# Altium footprint library Connector_PinHeader_1.00mm.PcbLib: 278 footprints (part 11 of 18)
Each footprint in its own frame and in the unit in brackets; x right, y up, seen from the top. Pads: shape width x height; smd on the part's side, far side on the other; paste and mask are expansions set on the pad; w line width, h text height; cw(c..) or ccw(c..) is an arc to the next point about the centre after c.
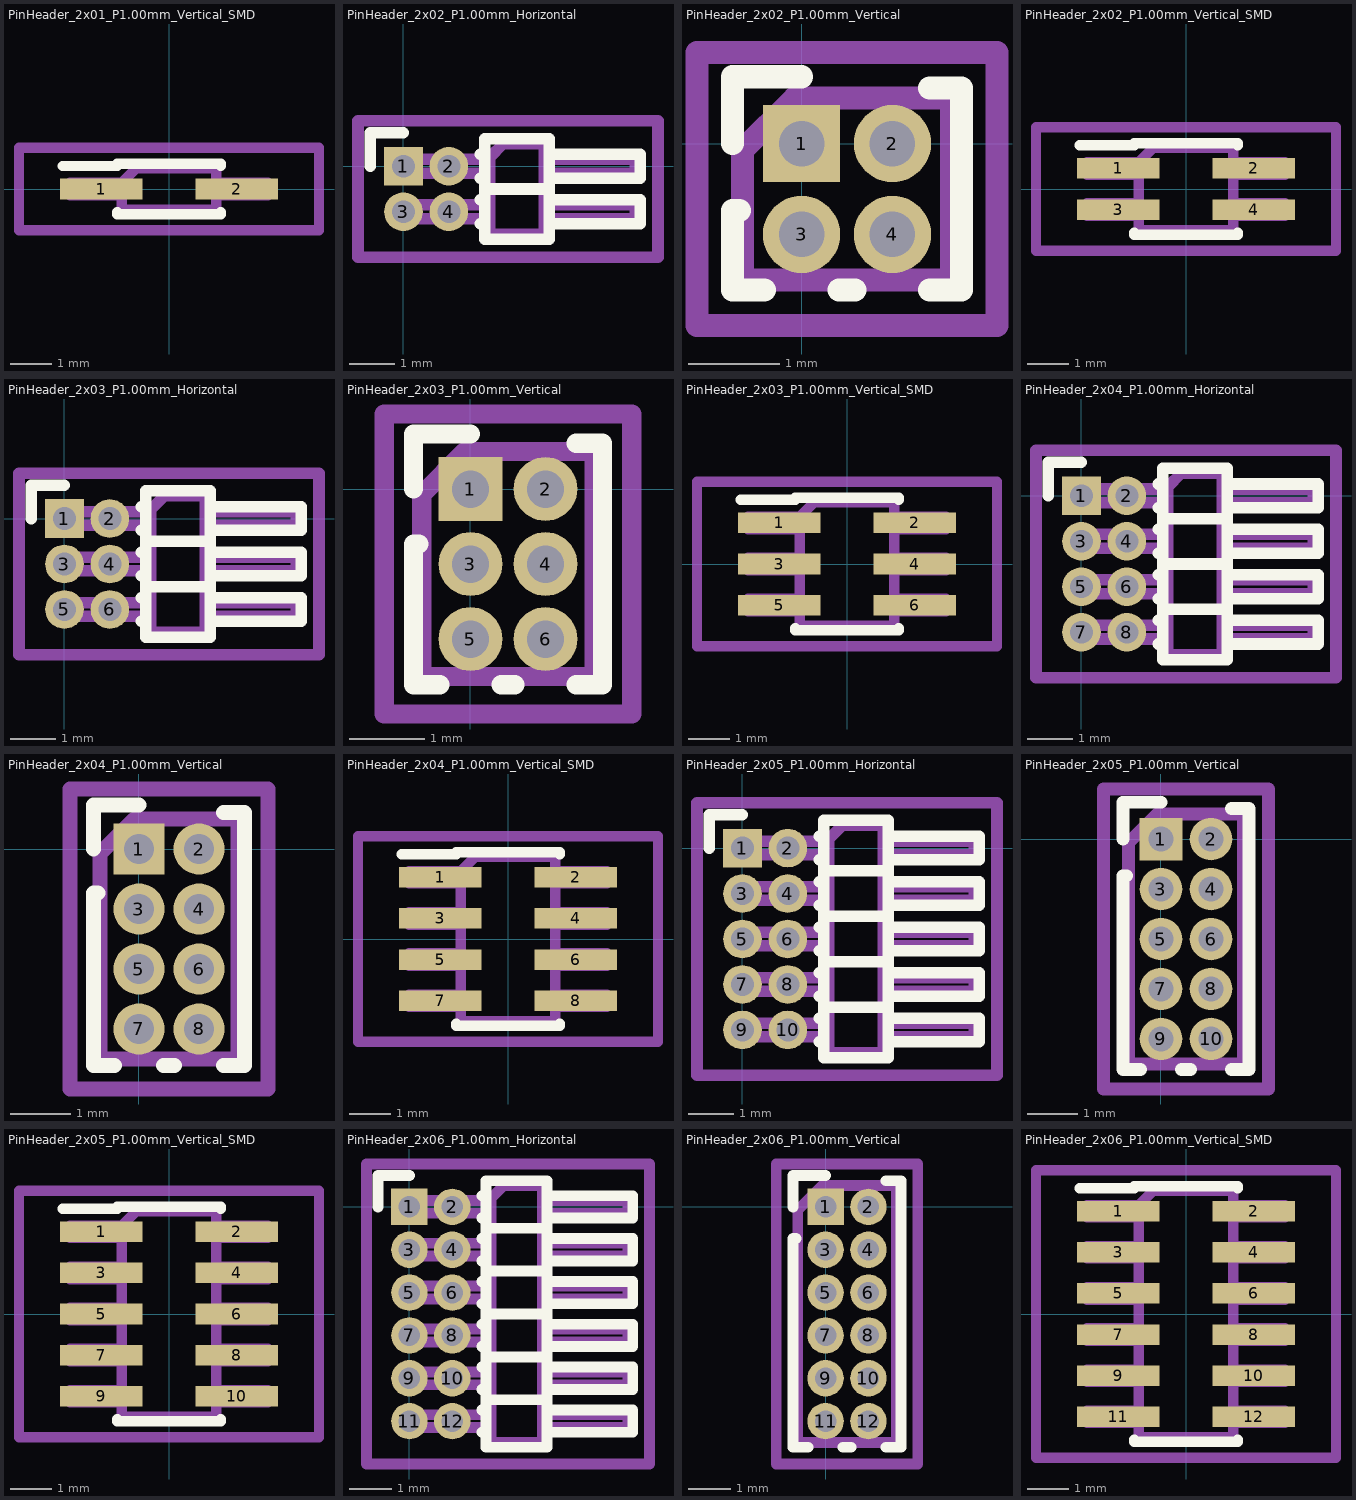
[diagram p10: the footprints below, top view; thin cyan lines are the x and y axes]

## PinHeader_2x01_P1.00mm_Vertical_SMD [mm]
pads (2):
  rect 2x0.5 smd: 1(-1.65,0) 2(1.65,0)
F.SilkS:
  lines w0.254: -2.59,0.56 -1.26,0.56 -1.26,0.61 1.26,0.61 1.26,0.56 ; -1.26,-0.56 -1.26,-0.61 1.26,-0.61 1.26,-0.56
Top Assembly:
  lines w0.254: -1.15,-0.15 -2.4,-0.15 -2.4,0.15 -1.15,0.15 ; 1.15,-0.15 2.4,-0.15 2.4,0.15 1.15,0.15 ; -1.15,0.15 -1.15,-0.5 1.15,-0.5 1.15,0.5 -0.8,0.5 -1.15,0.15
  text "'.Designator'" at 0.84,-4.047 h1
Top Courtyard:
  lines w0.254: -3.65,-1 3.65,-1 3.65,1 -3.65,1 -3.65,-1
Top Designator:
  text ".Designator" at -7.618,-0.658 h1.52

## PinHeader_2x02_P1.00mm_Horizontal [mm]
pads (4):
  rect 0.85x0.85 hole 0.5: 1(0,0)
  round 0.85 hole 0.5: 2(1,0) 3(0,-1) 4(1,-1)
F.SilkS:
  lines w0.254: -0.735,0 -0.735,0.735 0,0.735 ; 1.687,-1.26 1.79,-1.26 ; 1.687,-0.74 1.79,-0.74 ; 1.687,-0.26 1.79,-0.26 ; 1.687,0.26 1.79,0.26 ; 1.79,-0.5 3.21,-0.5 ; 3.21,-1.26 5.21,-1.26 5.21,-0.74 3.21,-0.74 ; 1.79,-1.61 3.21,-1.61 3.21,0.61 1.79,0.61 1.79,-1.61 ; 3.21,-0.26 5.21,-0.26 5.21,0.26 3.21,0.26 3.21,-0.26
Top Assembly:
  lines w0.254: 1.9,-1.15 -0.15,-1.15 -0.15,-0.85 1.9,-0.85 ; 1.9,-0.15 -0.15,-0.15 -0.15,0.15 1.9,0.15 ; 3.1,-1.15 5.1,-1.15 5.1,-0.85 3.1,-0.85 ; 3.1,-0.15 5.1,-0.15 5.1,0.15 3.1,0.15 ; 1.9,-1.5 3.1,-1.5 3.1,0.5 2.2,0.5 1.9,0.2 1.9,-1.5
  text "'.Designator'" at 3.105,-3.414 h0.72
Top Courtyard:
  lines w0.254: -1,-2 5.6,-2 5.6,1 -1,1 -1,-2
Top Designator:
  text ".Designator" at -5.318,-1.116 h1.52

## PinHeader_2x02_P1.00mm_Vertical [mm]
pads (4):
  rect 0.85x0.85 hole 0.5: 1(0,0)
  round 0.85 hole 0.5: 2(1,0) 3(0,-1) 4(1,-1)
F.SilkS:
  lines w0.254: -0.76,0 -0.76,0.735 0,0.735 ; -0.686,-0.735 -0.76,-0.735 -0.76,-1.61 -0.41,-1.61 ; 0.41,-1.61 0.59,-1.61 ; 1.41,-1.61 1.76,-1.61 1.76,0.61 1.41,0.61
Top Assembly:
  lines w0.254: -0.65,-1.5 1.65,-1.5 1.65,0.5 -0.075,0.5 -0.65,-0.075 -0.65,-1.5
  text "'.Designator'" at 1.34,-4.547 h1
Top Courtyard:
  lines w0.254: -1.15,-2 2.15,-2 2.15,1 -1.15,1 -1.15,-2
Top Designator:
  text ".Designator" at -7.118,-1.158 h1.52

## PinHeader_2x02_P1.00mm_Vertical_SMD [mm]
pads (4):
  rect 2x0.5 smd: 1(-1.65,0.5) 2(1.65,0.5) 3(-1.65,-0.5) 4(1.65,-0.5)
F.SilkS:
  lines w0.254: -2.59,1.06 -1.26,1.06 -1.26,1.11 1.26,1.11 1.26,1.06 ; -1.26,-1.06 -1.26,-1.11 1.26,-1.11 1.26,-1.06
Top Assembly:
  lines w0.254: -1.15,-0.65 -2.4,-0.65 -2.4,-0.35 -1.15,-0.35 ; -1.15,0.35 -2.4,0.35 -2.4,0.65 -1.15,0.65 ; 1.15,-0.65 2.4,-0.65 2.4,-0.35 1.15,-0.35 ; 1.15,0.35 2.4,0.35 2.4,0.65 1.15,0.65 ; -1.15,0.65 -1.15,-1 1.15,-1 1.15,1 -0.8,1 -1.15,0.65
  text "'.Designator'" at 0.84,-4.047 h1
Top Courtyard:
  lines w0.254: -3.65,-1.5 3.65,-1.5 3.65,1.5 -3.65,1.5 -3.65,-1.5
Top Designator:
  text ".Designator" at -7.618,-0.658 h1.52

## PinHeader_2x03_P1.00mm_Horizontal [mm]
pads (6):
  rect 0.85x0.85 hole 0.5: 1(0,0)
  round 0.85 hole 0.5: 2(1,0) 3(0,-1) 4(1,-1) 5(0,-2) 6(1,-2)
F.SilkS:
  lines w0.254: -0.735,0 -0.735,0.735 0,0.735 ; 1.687,-2.26 1.79,-2.26 ; 1.687,-1.74 1.79,-1.74 ; 1.687,-1.26 1.79,-1.26 ; 1.687,-0.74 1.79,-0.74 ; 1.687,-0.26 1.79,-0.26 ; 1.687,0.26 1.79,0.26 ; 1.79,-1.5 3.21,-1.5 ; 1.79,-0.5 3.21,-0.5 ; 3.21,-2.26 5.21,-2.26 5.21,-1.74 3.21,-1.74 ; 3.21,-1.26 5.21,-1.26 5.21,-0.74 3.21,-0.74 ; 1.79,-2.61 3.21,-2.61 3.21,0.61 1.79,0.61 1.79,-2.61 ; 3.21,-0.26 5.21,-0.26 5.21,0.26 3.21,0.26 3.21,-0.26
Top Assembly:
  lines w0.254: 1.9,-2.15 -0.15,-2.15 -0.15,-1.85 1.9,-1.85 ; 1.9,-1.15 -0.15,-1.15 -0.15,-0.85 1.9,-0.85 ; 1.9,-0.15 -0.15,-0.15 -0.15,0.15 1.9,0.15 ; 3.1,-2.15 5.1,-2.15 5.1,-1.85 3.1,-1.85 ; 3.1,-1.15 5.1,-1.15 5.1,-0.85 3.1,-0.85 ; 3.1,-0.15 5.1,-0.15 5.1,0.15 3.1,0.15 ; 1.9,-2.5 3.1,-2.5 3.1,0.5 2.2,0.5 1.9,0.2 1.9,-2.5
  text "'.Designator'" at 3.105,-3.914 h0.72
Top Courtyard:
  lines w0.254: -1,-3 5.6,-3 5.6,1 -1,1 -1,-3
Top Designator:
  text ".Designator" at -5.318,-1.616 h1.52

## PinHeader_2x03_P1.00mm_Vertical [mm]
pads (6):
  rect 0.85x0.85 hole 0.5: 1(0,0)
  round 0.85 hole 0.5: 2(1,0) 3(0,-1) 4(1,-1) 5(0,-2) 6(1,-2)
F.SilkS:
  lines w0.254: -0.76,0 -0.76,0.735 0,0.735 ; -0.686,-0.735 -0.76,-0.735 -0.76,-2.61 -0.41,-2.61 ; 0.41,-2.61 0.59,-2.61 ; 1.41,-2.61 1.76,-2.61 1.76,0.61 1.41,0.61
Top Assembly:
  lines w0.254: -0.65,-2.5 1.65,-2.5 1.65,0.5 -0.075,0.5 -0.65,-0.075 -0.65,-2.5
  text "'.Designator'" at 1.34,-5.047 h1
Top Courtyard:
  lines w0.254: -1.15,-3 2.15,-3 2.15,1 -1.15,1 -1.15,-3
Top Designator:
  text ".Designator" at -7.118,-1.658 h1.52

## PinHeader_2x03_P1.00mm_Vertical_SMD [mm]
pads (6):
  rect 2x0.5 smd: 1(-1.65,1) 2(1.65,1) 3(-1.65,0) 4(1.65,0) 5(-1.65,-1) 6(1.65,-1)
F.SilkS:
  lines w0.254: -2.59,1.56 -1.26,1.56 -1.26,1.61 1.26,1.61 1.26,1.56 ; -1.26,-1.56 -1.26,-1.61 1.26,-1.61 1.26,-1.56
Top Assembly:
  lines w0.254: -1.15,-1.15 -2.4,-1.15 -2.4,-0.85 -1.15,-0.85 ; -1.15,-0.15 -2.4,-0.15 -2.4,0.15 -1.15,0.15 ; -1.15,0.85 -2.4,0.85 -2.4,1.15 -1.15,1.15 ; 1.15,-1.15 2.4,-1.15 2.4,-0.85 1.15,-0.85 ; 1.15,-0.15 2.4,-0.15 2.4,0.15 1.15,0.15 ; 1.15,0.85 2.4,0.85 2.4,1.15 1.15,1.15 ; -1.15,1.15 -1.15,-1.5 1.15,-1.5 1.15,1.5 -0.8,1.5 -1.15,1.15
  text "'.Designator'" at 0.84,-4.047 h1
Top Courtyard:
  lines w0.254: -3.65,-2 3.65,-2 3.65,2 -3.65,2 -3.65,-2
Top Designator:
  text ".Designator" at -7.618,-0.658 h1.52

## PinHeader_2x04_P1.00mm_Horizontal [mm]
pads (8):
  rect 0.85x0.85 hole 0.5: 1(0,0)
  round 0.85 hole 0.5: 2(1,0) 3(0,-1) 4(1,-1) 5(0,-2) 6(1,-2) 7(0,-3) 8(1,-3)
F.SilkS:
  lines w0.254: -0.735,0 -0.735,0.735 0,0.735 ; 1.687,-3.26 1.79,-3.26 ; 1.687,-2.74 1.79,-2.74 ; 1.687,-2.26 1.79,-2.26 ; 1.687,-1.74 1.79,-1.74 ; 1.687,-1.26 1.79,-1.26 ; 1.687,-0.74 1.79,-0.74 ; 1.687,-0.26 1.79,-0.26 ; 1.687,0.26 1.79,0.26 ; 1.79,-2.5 3.21,-2.5 ; 1.79,-1.5 3.21,-1.5 ; 1.79,-0.5 3.21,-0.5 ; 3.21,-3.26 5.21,-3.26 5.21,-2.74 3.21,-2.74 ; 3.21,-2.26 5.21,-2.26 5.21,-1.74 3.21,-1.74 ; 3.21,-1.26 5.21,-1.26 5.21,-0.74 3.21,-0.74 ; 1.79,-3.61 3.21,-3.61 3.21,0.61 1.79,0.61 1.79,-3.61 ; 3.21,-0.26 5.21,-0.26 5.21,0.26 3.21,0.26 3.21,-0.26
Top Assembly:
  lines w0.254: 1.9,-3.15 -0.15,-3.15 -0.15,-2.85 1.9,-2.85 ; 1.9,-2.15 -0.15,-2.15 -0.15,-1.85 1.9,-1.85 ; 1.9,-1.15 -0.15,-1.15 -0.15,-0.85 1.9,-0.85 ; 1.9,-0.15 -0.15,-0.15 -0.15,0.15 1.9,0.15 ; 3.1,-3.15 5.1,-3.15 5.1,-2.85 3.1,-2.85 ; 3.1,-2.15 5.1,-2.15 5.1,-1.85 3.1,-1.85 ; 3.1,-1.15 5.1,-1.15 5.1,-0.85 3.1,-0.85 ; 3.1,-0.15 5.1,-0.15 5.1,0.15 3.1,0.15 ; 1.9,-3.5 3.1,-3.5 3.1,0.5 2.2,0.5 1.9,0.2 1.9,-3.5
  text "'.Designator'" at 3.105,-4.414 h0.72
Top Courtyard:
  lines w0.254: -1,-4 5.6,-4 5.6,1 -1,1 -1,-4
Top Designator:
  text ".Designator" at -5.318,-2.116 h1.52

## PinHeader_2x04_P1.00mm_Vertical [mm]
pads (8):
  rect 0.85x0.85 hole 0.5: 1(0,0)
  round 0.85 hole 0.5: 2(1,0) 3(0,-1) 4(1,-1) 5(0,-2) 6(1,-2) 7(0,-3) 8(1,-3)
F.SilkS:
  lines w0.254: -0.76,0 -0.76,0.735 0,0.735 ; -0.686,-0.735 -0.76,-0.735 -0.76,-3.61 -0.41,-3.61 ; 0.41,-3.61 0.59,-3.61 ; 1.41,-3.61 1.76,-3.61 1.76,0.61 1.41,0.61
Top Assembly:
  lines w0.254: -0.65,-3.5 1.65,-3.5 1.65,0.5 -0.075,0.5 -0.65,-0.075 -0.65,-3.5
  text "'.Designator'" at 1.34,-5.547 h1
Top Courtyard:
  lines w0.254: -1.15,-4 2.15,-4 2.15,1 -1.15,1 -1.15,-4
Top Designator:
  text ".Designator" at -7.118,-2.158 h1.52

## PinHeader_2x04_P1.00mm_Vertical_SMD [mm]
pads (8):
  rect 2x0.5 smd: 1(-1.65,1.5) 2(1.65,1.5) 3(-1.65,0.5) 4(1.65,0.5) 5(-1.65,-0.5) 6(1.65,-0.5) 7(-1.65,-1.5) 8(1.65,-1.5)
F.SilkS:
  lines w0.254: -2.59,2.06 -1.26,2.06 -1.26,2.11 1.26,2.11 1.26,2.06 ; -1.26,-2.06 -1.26,-2.11 1.26,-2.11 1.26,-2.06
Top Assembly:
  lines w0.254: -1.15,-1.65 -2.4,-1.65 -2.4,-1.35 -1.15,-1.35 ; -1.15,-0.65 -2.4,-0.65 -2.4,-0.35 -1.15,-0.35 ; -1.15,0.35 -2.4,0.35 -2.4,0.65 -1.15,0.65 ; -1.15,1.35 -2.4,1.35 -2.4,1.65 -1.15,1.65 ; 1.15,-1.65 2.4,-1.65 2.4,-1.35 1.15,-1.35 ; 1.15,-0.65 2.4,-0.65 2.4,-0.35 1.15,-0.35 ; 1.15,0.35 2.4,0.35 2.4,0.65 1.15,0.65 ; 1.15,1.35 2.4,1.35 2.4,1.65 1.15,1.65 ; -1.15,1.65 -1.15,-2 1.15,-2 1.15,2 -0.8,2 -1.15,1.65
  text "'.Designator'" at 0.84,-4.047 h1
Top Courtyard:
  lines w0.254: -3.65,-2.5 3.65,-2.5 3.65,2.5 -3.65,2.5 -3.65,-2.5
Top Designator:
  text ".Designator" at -7.618,-0.658 h1.52

## PinHeader_2x05_P1.00mm_Horizontal [mm]
pads (10):
  rect 0.85x0.85 hole 0.5: 1(0,0)
  round 0.85 hole 0.5: 2(1,0) 3(0,-1) 4(1,-1) 5(0,-2) 6(1,-2) 7(0,-3) 8(1,-3) 9(0,-4) 10(1,-4)
F.SilkS:
  lines w0.254: -0.735,0 -0.735,0.735 0,0.735 ; 1.687,-4.26 1.79,-4.26 ; 1.687,-3.74 1.79,-3.74 ; 1.687,-3.26 1.79,-3.26 ; 1.687,-2.74 1.79,-2.74 ; 1.687,-2.26 1.79,-2.26 ; 1.687,-1.74 1.79,-1.74 ; 1.687,-1.26 1.79,-1.26 ; 1.687,-0.74 1.79,-0.74 ; 1.687,-0.26 1.79,-0.26 ; 1.687,0.26 1.79,0.26 ; 1.79,-3.5 3.21,-3.5 ; 1.79,-2.5 3.21,-2.5 ; 1.79,-1.5 3.21,-1.5 ; 1.79,-0.5 3.21,-0.5 ; 3.21,-4.26 5.21,-4.26 5.21,-3.74 3.21,-3.74 ; 3.21,-3.26 5.21,-3.26 5.21,-2.74 3.21,-2.74 ; 3.21,-2.26 5.21,-2.26 5.21,-1.74 3.21,-1.74 ; 3.21,-1.26 5.21,-1.26 5.21,-0.74 3.21,-0.74 ; 1.79,-4.61 3.21,-4.61 3.21,0.61 1.79,0.61 1.79,-4.61 ; 3.21,-0.26 5.21,-0.26 5.21,0.26 3.21,0.26 3.21,-0.26
Top Assembly:
  lines w0.254: 1.9,-4.15 -0.15,-4.15 -0.15,-3.85 1.9,-3.85 ; 1.9,-3.15 -0.15,-3.15 -0.15,-2.85 1.9,-2.85 ; 1.9,-2.15 -0.15,-2.15 -0.15,-1.85 1.9,-1.85 ; 1.9,-1.15 -0.15,-1.15 -0.15,-0.85 1.9,-0.85 ; 1.9,-0.15 -0.15,-0.15 -0.15,0.15 1.9,0.15 ; 3.1,-4.15 5.1,-4.15 5.1,-3.85 3.1,-3.85 ; 3.1,-3.15 5.1,-3.15 5.1,-2.85 3.1,-2.85 ; 3.1,-2.15 5.1,-2.15 5.1,-1.85 3.1,-1.85 ; 3.1,-1.15 5.1,-1.15 5.1,-0.85 3.1,-0.85 ; 3.1,-0.15 5.1,-0.15 5.1,0.15 3.1,0.15 ; 1.9,-4.5 3.1,-4.5 3.1,0.5 2.2,0.5 1.9,0.2 1.9,-4.5
  text "'.Designator'" at 3.105,-4.914 h0.72
Top Courtyard:
  lines w0.254: -1,-5 5.6,-5 5.6,1 -1,1 -1,-5
Top Designator:
  text ".Designator" at -5.318,-2.508 h1.52

## PinHeader_2x05_P1.00mm_Vertical [mm]
pads (10):
  rect 0.85x0.85 hole 0.5: 1(0,0)
  round 0.85 hole 0.5: 2(1,0) 3(0,-1) 4(1,-1) 5(0,-2) 6(1,-2) 7(0,-3) 8(1,-3) 9(0,-4) 10(1,-4)
F.SilkS:
  lines w0.254: -0.76,0 -0.76,0.735 0,0.735 ; -0.686,-0.735 -0.76,-0.735 -0.76,-4.61 -0.41,-4.61 ; 0.41,-4.61 0.59,-4.61 ; 1.41,-4.61 1.76,-4.61 1.76,0.61 1.41,0.61
Top Assembly:
  lines w0.254: -0.65,-4.5 1.65,-4.5 1.65,0.5 -0.075,0.5 -0.65,-0.075 -0.65,-4.5
  text "'.Designator'" at 1.34,-6.047 h1
Top Courtyard:
  lines w0.254: -1.15,-5 2.15,-5 2.15,1 -1.15,1 -1.15,-5
Top Designator:
  text ".Designator" at -7.118,-2.658 h1.52

## PinHeader_2x05_P1.00mm_Vertical_SMD [mm]
pads (10):
  rect 2x0.5 smd: 1(-1.65,2) 2(1.65,2) 3(-1.65,1) 4(1.65,1) 5(-1.65,0) 6(1.65,0) 7(-1.65,-1) 8(1.65,-1) 9(-1.65,-2) 10(1.65,-2)
F.SilkS:
  lines w0.254: -2.59,2.56 -1.26,2.56 -1.26,2.61 1.26,2.61 1.26,2.56 ; -1.26,-2.56 -1.26,-2.61 1.26,-2.61 1.26,-2.56
Top Assembly:
  lines w0.254: -1.15,-2.15 -2.4,-2.15 -2.4,-1.85 -1.15,-1.85 ; -1.15,-1.15 -2.4,-1.15 -2.4,-0.85 -1.15,-0.85 ; -1.15,-0.15 -2.4,-0.15 -2.4,0.15 -1.15,0.15 ; -1.15,0.85 -2.4,0.85 -2.4,1.15 -1.15,1.15 ; -1.15,1.85 -2.4,1.85 -2.4,2.15 -1.15,2.15 ; 1.15,-2.15 2.4,-2.15 2.4,-1.85 1.15,-1.85 ; 1.15,-1.15 2.4,-1.15 2.4,-0.85 1.15,-0.85 ; 1.15,-0.15 2.4,-0.15 2.4,0.15 1.15,0.15 ; 1.15,0.85 2.4,0.85 2.4,1.15 1.15,1.15 ; 1.15,1.85 2.4,1.85 2.4,2.15 1.15,2.15 ; -1.15,2.15 -1.15,-2.5 1.15,-2.5 1.15,2.5 -0.8,2.5 -1.15,2.15
  text "'.Designator'" at 0.84,-4.047 h1
Top Courtyard:
  lines w0.254: -3.65,-3 3.65,-3 3.65,3 -3.65,3 -3.65,-3
Top Designator:
  text ".Designator" at -7.618,-0.658 h1.52

## PinHeader_2x06_P1.00mm_Horizontal [mm]
pads (12):
  rect 0.85x0.85 hole 0.5: 1(0,0)
  round 0.85 hole 0.5: 2(1,0) 3(0,-1) 4(1,-1) 5(0,-2) 6(1,-2) 7(0,-3) 8(1,-3) 9(0,-4) 10(1,-4) 11(0,-5) 12(1,-5)
F.SilkS:
  lines w0.254: -0.735,0 -0.735,0.735 0,0.735 ; 1.687,-5.26 1.79,-5.26 ; 1.687,-4.74 1.79,-4.74 ; 1.687,-4.26 1.79,-4.26 ; 1.687,-3.74 1.79,-3.74 ; 1.687,-3.26 1.79,-3.26 ; 1.687,-2.74 1.79,-2.74 ; 1.687,-2.26 1.79,-2.26 ; 1.687,-1.74 1.79,-1.74 ; 1.687,-1.26 1.79,-1.26 ; 1.687,-0.74 1.79,-0.74 ; 1.687,-0.26 1.79,-0.26 ; 1.687,0.26 1.79,0.26 ; 1.79,-4.5 3.21,-4.5 ; 1.79,-3.5 3.21,-3.5 ; 1.79,-2.5 3.21,-2.5 ; 1.79,-1.5 3.21,-1.5 ; 1.79,-0.5 3.21,-0.5 ; 3.21,-5.26 5.21,-5.26 5.21,-4.74 3.21,-4.74 ; 3.21,-4.26 5.21,-4.26 5.21,-3.74 3.21,-3.74 ; 3.21,-3.26 5.21,-3.26 5.21,-2.74 3.21,-2.74 ; 3.21,-2.26 5.21,-2.26 5.21,-1.74 3.21,-1.74 ; 3.21,-1.26 5.21,-1.26 5.21,-0.74 3.21,-0.74 ; 1.79,-5.61 3.21,-5.61 3.21,0.61 1.79,0.61 1.79,-5.61 ; 3.21,-0.26 5.21,-0.26 5.21,0.26 3.21,0.26 3.21,-0.26
Top Assembly:
  lines w0.254: 1.9,-5.15 -0.15,-5.15 -0.15,-4.85 1.9,-4.85 ; 1.9,-4.15 -0.15,-4.15 -0.15,-3.85 1.9,-3.85 ; 1.9,-3.15 -0.15,-3.15 -0.15,-2.85 1.9,-2.85 ; 1.9,-2.15 -0.15,-2.15 -0.15,-1.85 1.9,-1.85 ; 1.9,-1.15 -0.15,-1.15 -0.15,-0.85 1.9,-0.85 ; 1.9,-0.15 -0.15,-0.15 -0.15,0.15 1.9,0.15 ; 3.1,-5.15 5.1,-5.15 5.1,-4.85 3.1,-4.85 ; 3.1,-4.15 5.1,-4.15 5.1,-3.85 3.1,-3.85 ; 3.1,-3.15 5.1,-3.15 5.1,-2.85 3.1,-2.85 ; 3.1,-2.15 5.1,-2.15 5.1,-1.85 3.1,-1.85 ; 3.1,-1.15 5.1,-1.15 5.1,-0.85 3.1,-0.85 ; 3.1,-0.15 5.1,-0.15 5.1,0.15 3.1,0.15 ; 1.9,-5.5 3.1,-5.5 3.1,0.5 2.2,0.5 1.9,0.2 1.9,-5.5
  text "'.Designator'" at 3.105,-5.414 h0.72
Top Courtyard:
  lines w0.254: -1,-6 5.6,-6 5.6,1 -1,1 -1,-6
Top Designator:
  text ".Designator" at -5.318,-3.008 h1.52

## PinHeader_2x06_P1.00mm_Vertical [mm]
pads (12):
  rect 0.85x0.85 hole 0.5: 1(0,0)
  round 0.85 hole 0.5: 2(1,0) 3(0,-1) 4(1,-1) 5(0,-2) 6(1,-2) 7(0,-3) 8(1,-3) 9(0,-4) 10(1,-4) 11(0,-5) 12(1,-5)
F.SilkS:
  lines w0.254: -0.76,0 -0.76,0.735 0,0.735 ; -0.686,-0.735 -0.76,-0.735 -0.76,-5.61 -0.41,-5.61 ; 0.41,-5.61 0.59,-5.61 ; 1.41,-5.61 1.76,-5.61 1.76,0.61 1.41,0.61
Top Assembly:
  lines w0.254: -0.65,-5.5 1.65,-5.5 1.65,0.5 -0.075,0.5 -0.65,-0.075 -0.65,-5.5
  text "'.Designator'" at 1.34,-6.547 h1
Top Courtyard:
  lines w0.254: -1.15,-6 2.15,-6 2.15,1 -1.15,1 -1.15,-6
Top Designator:
  text ".Designator" at -7.118,-3.158 h1.52

## PinHeader_2x06_P1.00mm_Vertical_SMD [mm]
pads (12):
  rect 2x0.5 smd: 1(-1.65,2.5) 2(1.65,2.5) 3(-1.65,1.5) 4(1.65,1.5) 5(-1.65,0.5) 6(1.65,0.5) 7(-1.65,-0.5) 8(1.65,-0.5) 9(-1.65,-1.5) 10(1.65,-1.5) 11(-1.65,-2.5) 12(1.65,-2.5)
F.SilkS:
  lines w0.254: -2.59,3.06 -1.26,3.06 -1.26,3.11 1.26,3.11 1.26,3.06 ; -1.26,-3.06 -1.26,-3.11 1.26,-3.11 1.26,-3.06
Top Assembly:
  lines w0.254: -1.15,-2.65 -2.4,-2.65 -2.4,-2.35 -1.15,-2.35 ; -1.15,-1.65 -2.4,-1.65 -2.4,-1.35 -1.15,-1.35 ; -1.15,-0.65 -2.4,-0.65 -2.4,-0.35 -1.15,-0.35 ; -1.15,0.35 -2.4,0.35 -2.4,0.65 -1.15,0.65 ; -1.15,1.35 -2.4,1.35 -2.4,1.65 -1.15,1.65 ; -1.15,2.35 -2.4,2.35 -2.4,2.65 -1.15,2.65 ; 1.15,-2.65 2.4,-2.65 2.4,-2.35 1.15,-2.35 ; 1.15,-1.65 2.4,-1.65 2.4,-1.35 1.15,-1.35 ; 1.15,-0.65 2.4,-0.65 2.4,-0.35 1.15,-0.35 ; 1.15,0.35 2.4,0.35 2.4,0.65 1.15,0.65 ; 1.15,1.35 2.4,1.35 2.4,1.65 1.15,1.65 ; 1.15,2.35 2.4,2.35 2.4,2.65 1.15,2.65 ; -1.15,2.65 -1.15,-3 1.15,-3 1.15,3 -0.8,3 -1.15,2.65
  text "'.Designator'" at 0.84,-4.047 h1
Top Courtyard:
  lines w0.254: -3.65,-3.5 3.65,-3.5 3.65,3.5 -3.65,3.5 -3.65,-3.5
Top Designator:
  text ".Designator" at -7.618,-0.658 h1.52